# Altium footprint library WCAP-CSRF.PcbLib: 2 footprints
Each footprint in its own frame and in the unit in brackets; x right, y up, seen from the top. Pads: shape width x height; smd on the part's side, far side on the other; paste and mask are expansions set on the pad; w line width, h text height; cw(c..) or ccw(c..) is an arc to the next point about the centre after c.
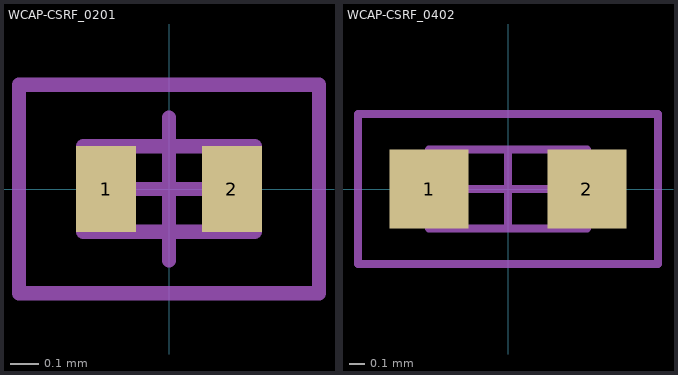
[diagram p0: the footprints below, top view; thin cyan lines are the x and y axes]

## WCAP-CSRF_0201 [mm] "Radio Frequency MLCC, body 0.6x0.3mm"
height 0.33
pads (2):
  rect 0.21x0.3 smd: 1(-0.22,0) 2(0.22,0)
Top Designator:
  text ".Designator" at -2.499,-0.167 h0.5
Top Component Outline:
  lines w0.05: -0.3,-0.15 0.3,-0.15 0.3,0.15 -0.3,0.15 -0.3,-0.15
Top Courtyard:
  lines w0.05: -0.525,-0.365 0.525,-0.365 0.525,0.365 -0.525,0.365 -0.525,-0.365
Top Component Center:
  lines w0.05: -0.25,0 0.25,0 ; 0,-0.25 0,0.25
3D body "CAPC0603X03N.step": height 0.3, standoff 0, extent -0.3,-0.15 0.3,0.15

## WCAP-CSRF_0402 [mm] "Radio Frequency MLCC, body 1x0.5mm"
height 0.55
pads (2):
  rect 0.5x0.5 smd: 1(-0.5,0) 2(0.5,0)
Top Designator:
  text ".Designator" at -2.499,-0.167 h0.5
Top Component Outline:
  lines w0.05: -0.5,-0.25 0.5,-0.25 0.5,0.25 -0.5,0.25 -0.5,-0.25
Top Courtyard:
  lines w0.05: -0.95,-0.475 0.95,-0.475 0.95,0.475 -0.95,0.475 -0.95,-0.475
Top Component Center:
  lines w0.05: -0.25,0 0.25,0 ; 0,-0.25 0,0.25
3D body "CAPC1005X05N.step": height 0.5, standoff 0, extent -0.5,-0.25 0.5,0.25